# Altium footprint library CAP_POL_12.5x20_V.PcbLib: 1 footprints
Each footprint in its own frame and in the unit in brackets; x right, y up, seen from the top. Pads: shape width x height; smd on the part's side, far side on the other; paste and mask are expansions set on the pad; w line width, h text height; cw(c..) or ccw(c..) is an arc to the next point about the centre after c.
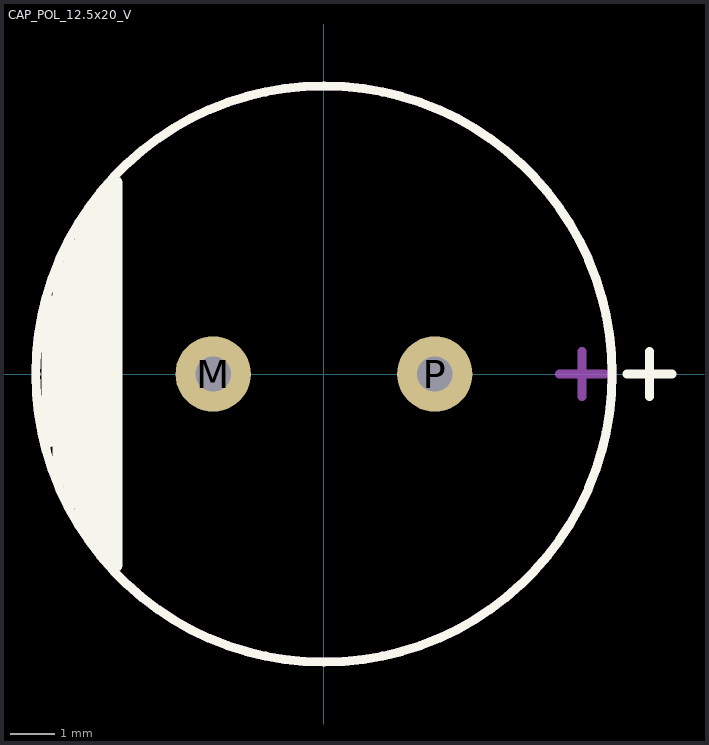
[diagram p0: the footprint, top view; thin cyan lines are the x and y axes]

## CAP_POL_12.5x20_V [mm]
pads (2):
  round 1.7 hole 0.8: M(-2.5,0) P(2.5,0)
Top Overlay:
  circle w0.2: c0,0 r6.5
  lines w0.2: 6.838,0 7.854,0 ; 7.346,-0.508 7.346,0.508
  lines w0.3: -6.223,-1.524 -6.223,1.651 ; -5.969,-2.413 -5.969,2.413 ; -5.715,-2.921 -5.715,2.921 ; -5.461,-3.302 -5.461,3.175 ; -5.334,-3.556 -5.334,3.556 ; -5.08,-3.81 -5.08,3.81 ; -4.953,-2.286 -4.953,4.064 ; -4.699,-4.318 -4.699,4.318 ; -4.953,4.064 -4.953,-4.064 -4.953,4.064
Mechanical 13:
  circle w0.2: c0,0 r6.5
  lines w0.2: 5.314,0 6.33,0 ; 5.822,-0.508 5.822,0.508
  text ".Designator" at -2.159,-3.175 h2.5
3D body: height 20.01, standoff -2.7, extent -6.206,-6.25 6.25,6.25